# Altium integrated library Altium_WL-SMCW (rev18c).IntLib: 28 symbols
Pins are listed as number, name and electrical type; pins without a type are passive.

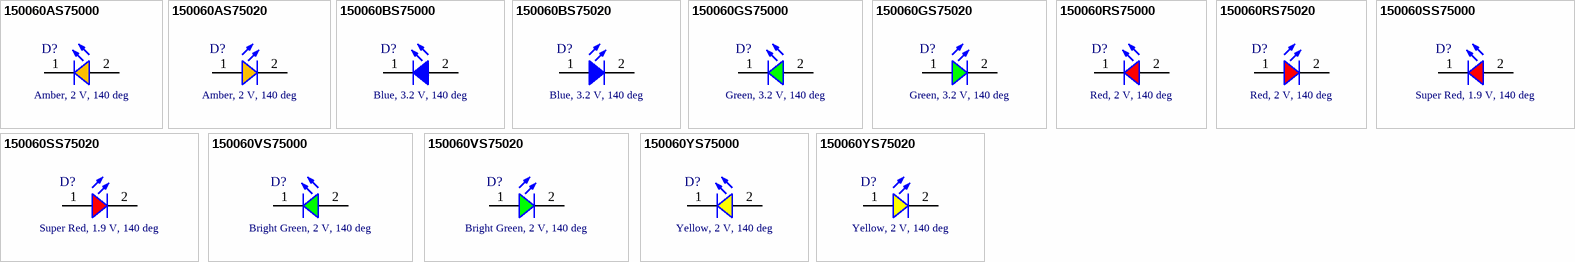
[diagram p0: symbols 150060AS75000 to 150060YS75020]

## 150060AS75000
designator D?, comment Amber, 2 V, 140 deg
SMT Mono-color Chip LED Waterclear WL-SMCW, size 0603, Amber, 2 V, 140 deg, 130 mcd; Part Number: 150060AS75000; Forward Voltage: 2 V; Viewing Angle: 140 deg; Peak Wavelength: 610 nm; Dominant Wavelength: 605 nm; Luminous Intensity: 130 mcd; Chip Technology: AlInGaP; ComponentLink1Description: Manufacturer; ComponentLink1URL: http://www.we-online.de; ComponentLink2Description: Datasheet; ComponentLink2URL: https://katalog.we-online.de/led/datasheet/150060AS75000.pdf; Published Date: November 2018; Publisher: Wurth Elektronik; Size: 0603; Operating Temperature: -40 to 85 degC; Emitting Color: Amber; Mounting Technology: SMT; Packaging: Tape and Reel
footprint WL-SMCW_0603_H=0.7
pins: 1 K, 2 A

## 150060AS75020
designator D?, comment Amber, 2 V, 140 deg
SMT Mono-color Chip LED Waterclear WL-SMCW, size 0603, Amber, 2 V, 140 deg, 140 mcd; Part Number: 150060AS75020; Forward Voltage: 2 V; Viewing Angle: 140 deg; Peak Wavelength: 610 nm; Dominant Wavelength: 605 nm; Luminous Intensity: 140 mcd; Chip Technology: AlInGaP; ComponentLink1Description: Manufacturer; ComponentLink1URL: http://www.we-online.de; ComponentLink2Description: Datasheet; ComponentLink2URL: https://katalog.we-online.de/led/datasheet/150060AS75020.pdf; Published Date: November 2018; Publisher: Wurth Elektronik; Size: 0603; Operating Temperature: -40 to 85 degC; Emitting Color: Amber; Mounting Technology: SMT; Packaging: Tape and Reel
footprint WL-SMCW_0603_H=0.25
pins: 1 A, 2 K

## 150060BS75000
designator D?, comment Blue, 3.2 V, 140 deg
SMT Mono-color Chip LED Waterclear WL-SMCW, size 0603, Blue, 3.2 V, 140 deg, 145 mcd; Part Number: 150060BS75000; Forward Voltage: 3.2 V; Viewing Angle: 140 deg; Peak Wavelength: 465 nm; Dominant Wavelength: 470 nm; Luminous Intensity: 145 mcd; Chip Technology: InGaN; ComponentLink1Description: Manufacturer; ComponentLink1URL: http://www.we-online.de; ComponentLink2Description: Datasheet; ComponentLink2URL: https://katalog.we-online.de/led/datasheet/150060BS75000.pdf; Published Date: November 2018; Publisher: Wurth Elektronik; Size: 0603; Operating Temperature: -40 to 85 degC; Emitting Color: Blue; Mounting Technology: SMT; Packaging: Tape and Reel
footprint WL-SMCW_0603_H=0.7
pins: 1 K, 2 A

## 150060BS75020
designator D?, comment Blue, 3.2 V, 140 deg
SMT Mono-color Chip LED Waterclear WL-SMCW, size 0603, Blue, 3.2 V, 140 deg, 150 mcd; Part Number: 150060BS75020; Forward Voltage: 3.2 V; Viewing Angle: 140 deg; Peak Wavelength: 465 nm; Dominant Wavelength: 470 nm; Luminous Intensity: 150 mcd; Chip Technology: InGaN; ComponentLink1Description: Manufacturer; ComponentLink1URL: http://www.we-online.de; ComponentLink2Description: Datasheet; ComponentLink2URL: https://katalog.we-online.de/led/datasheet/150060BS75020.pdf; Published Date: November 2018; Publisher: Wurth Elektronik; Size: 0603; Operating Temperature: -40 to 85 degC; Emitting Color: Blue; Mounting Technology: SMT; Packaging: Tape and Reel
footprint WL-SMCW_0603_H=0.25
pins: 1 A, 2 K

## 150060GS75000
designator D?, comment Green, 3.2 V, 140 deg
SMT Mono-color Chip LED Waterclear WL-SMCW, size 0603, Green, 3.2 V, 140 deg, 430 mcd; Part Number: 150060GS75000; Forward Voltage: 3.2 V; Viewing Angle: 140 deg; Peak Wavelength: 515 nm; Dominant Wavelength: 525 nm; Luminous Intensity: 430 mcd; Chip Technology: InGaN; ComponentLink1Description: Manufacturer; ComponentLink1URL: http://www.we-online.de; ComponentLink2Description: Datasheet; ComponentLink2URL: https://katalog.we-online.de/led/datasheet/150060GS75000.pdf; Published Date: November 2018; Publisher: Wurth Elektronik; Size: 0603; Operating Temperature: -40 to 85 degC; Emitting Color: Green; Mounting Technology: SMT; Packaging: Tape and Reel
footprint WL-SMCW_0603_H=0.7
pins: 1 K, 2 A

## 150060GS75020
designator D?, comment Green, 3.2 V, 140 deg
SMT Mono-color Chip LED Waterclear WL-SMCW, size 0603, Green, 3.2 V, 140 deg, 700 mcd; Part Number: 150060GS75020; Forward Voltage: 3.2 V; Viewing Angle: 140 deg; Peak Wavelength: 515 nm; Dominant Wavelength: 525 nm; Luminous Intensity: 700 mcd; Chip Technology: InGaN; ComponentLink1Description: Manufacturer; ComponentLink1URL: http://www.we-online.de; ComponentLink2Description: Datasheet; ComponentLink2URL: https://katalog.we-online.de/led/datasheet/150060GS75020.pdf; Published Date: November 2018; Publisher: Wurth Elektronik; Size: 0603; Operating Temperature: -40 to 85 degC; Emitting Color: Green; Mounting Technology: SMT; Packaging: Tape and Reel
footprint WL-SMCW_0603_H=0.25
pins: 1 A, 2 K

## 150060RS75000
designator D?, comment Red, 2 V, 140 deg
SMT Mono-color Chip LED Waterclear WL-SMCW, size 0603, Red, 2 V, 140 deg, 250 mcd; Part Number: 150060RS75000; Forward Voltage: 2 V; Viewing Angle: 140 deg; Peak Wavelength: 630 nm; Dominant Wavelength: 625 nm; Luminous Intensity: 250 mcd; Chip Technology: AlInGaP; ComponentLink1Description: Manufacturer; ComponentLink1URL: http://www.we-online.de; ComponentLink2Description: Datasheet; ComponentLink2URL: https://katalog.we-online.de/led/datasheet/150060RS75000.pdf; Published Date: November 2018; Publisher: Wurth Elektronik; Size: 0603; Operating Temperature: -40 to 85 degC; Emitting Color: Red; Mounting Technology: SMT; Packaging: Tape and Reel
footprint WL-SMCW_0603_H=0.7
pins: 1 K, 2 A

## 150060RS75020
designator D?, comment Red, 2 V, 140 deg
SMT Mono-color Chip LED Waterclear WL-SMCW, size 0603, Red, 2 V, 140 deg, 100 mcd; Part Number: 150060RS75020; Forward Voltage: 2 V; Viewing Angle: 140 deg; Peak Wavelength: 630 nm; Dominant Wavelength: 625 nm; Luminous Intensity: 100 mcd; Chip Technology: AlInGaP; ComponentLink1Description: Manufacturer; ComponentLink1URL: http://www.we-online.de; ComponentLink2Description: Datasheet; ComponentLink2URL: https://katalog.we-online.de/led/datasheet/150060RS75020.pdf; Published Date: November 2018; Publisher: Wurth Elektronik; Size: 0603; Operating Temperature: -40 to 85 degC; Emitting Color: Red; Mounting Technology: SMT; Packaging: Tape and Reel
footprint WL-SMCW_0603_H=0.25
pins: 1 A, 2 K

## 150060SS75000
designator D?, comment Super Red, 1.9 V, 140 deg
SMT Mono-color Chip LED Waterclear WL-SMCW, size 0603, Super Red, 1.9 V, 140 deg, 60 mcd; Part Number: 150060SS75000; Forward Voltage: 1.9 V; Viewing Angle: 140 deg; Peak Wavelength: 645 nm; Dominant Wavelength: 630 nm; Luminous Intensity: 60 mcd; Chip Technology: AlInGaP; ComponentLink1Description: Manufacturer; ComponentLink1URL: http://www.we-online.de; ComponentLink2Description: Datasheet; ComponentLink2URL: https://katalog.we-online.de/led/datasheet/150060SS75000.pdf; Published Date: November 2018; Publisher: Wurth Elektronik; Size: 0603; Operating Temperature: -40 to 85 degC; Emitting Color: Super Red; Mounting Technology: SMT; Packaging: Tape and Reel
footprint WL-SMCW_0603_H=0.7
pins: 1 K, 2 A

## 150060SS75020
designator D?, comment Super Red, 1.9 V, 140 deg
SMT Mono-color Chip LED Waterclear WL-SMCW, size 0603, Super Red, 1.9 V, 140 deg, 70 mcd; Part Number: 150060SS75020; Forward Voltage: 1.9 V; Viewing Angle: 140 deg; Peak Wavelength: 645 nm; Dominant Wavelength: 630 nm; Luminous Intensity: 70 mcd; Chip Technology: AlInGaP; ComponentLink1Description: Manufacturer; ComponentLink1URL: http://www.we-online.de; ComponentLink2Description: Datasheet; ComponentLink2URL: https://katalog.we-online.de/led/datasheet/150060SS75020.pdf; Published Date: November 2018; Publisher: Wurth Elektronik; Size: 0603; Operating Temperature: -40 to 85 degC; Emitting Color: Super Red; Mounting Technology: SMT; Packaging: Tape and Reel
footprint WL-SMCW_0603_H=0.25
pins: 1 A, 2 K

## 150060VS75000
designator D?, comment Bright Green, 2 V, 140 deg
SMT Mono-color Chip LED Waterclear WL-SMCW, size 0603, Bright Green, 2 V, 140 deg, 40 mcd; Part Number: 150060VS75000; Forward Voltage: 2 V; Viewing Angle: 140 deg; Peak Wavelength: 572 nm; Dominant Wavelength: 570 nm; Luminous Intensity: 40 mcd; Chip Technology: AlInGaP; ComponentLink1Description: Manufacturer; ComponentLink1URL: http://www.we-online.de; ComponentLink2Description: Datasheet; ComponentLink2URL: https://katalog.we-online.de/led/datasheet/150060VS75000.pdf; Published Date: November 2018; Publisher: Wurth Elektronik; Size: 0603; Operating Temperature: -40 to 85 degC; Emitting Color: Bright Green; Mounting Technology: SMT; Packaging: Tape and Reel
footprint WL-SMCW_0603_H=0.7
pins: 1 K, 2 A

## 150060VS75020
designator D?, comment Bright Green, 2 V, 140 deg
SMT Mono-color Chip LED Waterclear WL-SMCW, size 0603, Bright Green, 2 V, 140 deg, 50 mcd; Part Number: 150060VS75020; Forward Voltage: 2 V; Viewing Angle: 140 deg; Peak Wavelength: 572 nm; Dominant Wavelength: 570 nm; Luminous Intensity: 50 mcd; Chip Technology: AlInGaP; ComponentLink1Description: Manufacturer; ComponentLink1URL: http://www.we-online.de; ComponentLink2Description: Datasheet; ComponentLink2URL: https://katalog.we-online.de/led/datasheet/150060VS75020.pdf; Published Date: November 2018; Publisher: Wurth Elektronik; Size: 0603; Operating Temperature: -40 to 85 degC; Emitting Color: Bright Green; Mounting Technology: SMT; Packaging: Tape and Reel
footprint WL-SMCW_0603_H=0.25
pins: 1 A, 2 K

## 150060YS75000
designator D?, comment Yellow, 2 V, 140 deg
SMT Mono-color Chip LED Waterclear WL-SMCW, size 0603, Yellow, 2 V, 140 deg, 120 mcd; Part Number: 150060YS75000; Forward Voltage: 2 V; Viewing Angle: 140 deg; Peak Wavelength: 595 nm; Dominant Wavelength: 590 nm; Luminous Intensity: 120 mcd; Chip Technology: AlInGaP; ComponentLink1Description: Manufacturer; ComponentLink1URL: http://www.we-online.de; ComponentLink2Description: Datasheet; ComponentLink2URL: https://katalog.we-online.de/led/datasheet/150060YS75000.pdf; Published Date: November 2018; Publisher: Wurth Elektronik; Size: 0603; Operating Temperature: -40 to 85 degC; Emitting Color: Yellow; Mounting Technology: SMT; Packaging: Tape and Reel
footprint WL-SMCW_0603_H=0.7
pins: 1 K, 2 A

## 150060YS75020
designator D?, comment Yellow, 2 V, 140 deg
SMT Mono-color Chip LED Waterclear WL-SMCW, size 0603, Yellow, 2 V, 140 deg, 130 mcd; Part Number: 150060YS75020; Forward Voltage: 2 V; Viewing Angle: 140 deg; Peak Wavelength: 595 nm; Dominant Wavelength: 590 nm; Luminous Intensity: 130 mcd; Chip Technology: AlInGaP; ComponentLink1Description: Manufacturer; ComponentLink1URL: http://www.we-online.de; ComponentLink2Description: Datasheet; ComponentLink2URL: https://katalog.we-online.de/led/datasheet/150060YS75020.pdf; Published Date: November 2018; Publisher: Wurth Elektronik; Size: 0603; Operating Temperature: -40 to 85 degC; Emitting Color: Yellow; Mounting Technology: SMT; Packaging: Tape and Reel
footprint WL-SMCW_0603_H=0.25
pins: 1 A, 2 K


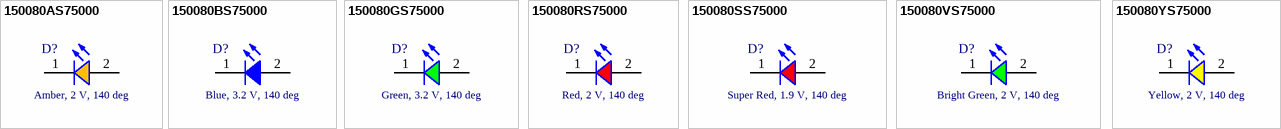
[diagram p1: symbols 150080AS75000 to 150080YS75000]

## 150080AS75000
designator D?, comment Amber, 2 V, 140 deg
SMT Mono-color Chip LED Waterclear WL-SMCW, size 0805, Amber, 2 V, 140 deg, 130 mcd; Part Number: 150080AS75000; Forward Voltage: 2 V; Viewing Angle: 140 deg; Peak Wavelength: 610 nm; Dominant Wavelength: 605 nm; Luminous Intensity: 130 mcd; Chip Technology: AlInGaP; ComponentLink1Description: Manufacturer; ComponentLink1URL: http://www.we-online.de; ComponentLink2Description: Datasheet; ComponentLink2URL: https://katalog.we-online.de/led/datasheet/150080AS75000.pdf; Published Date: November 2018; Publisher: Wurth Elektronik; Size: 0805; Operating Temperature: -40 to 85 degC; Emitting Color: Amber; Mounting Technology: SMT; Packaging: Tape and Reel
footprint WL-SMCW_0805
pins: 1 K, 2 A

## 150080BS75000
designator D?, comment Blue, 3.2 V, 140 deg
SMT Mono-color Chip LED Waterclear WL-SMCW, size 0805, Blue, 3.2 V, 140 deg, 145 mcd; Part Number: 150080BS75000; Forward Voltage: 3.2 V; Viewing Angle: 140 deg; Peak Wavelength: 465 nm; Dominant Wavelength: 470 nm; Luminous Intensity: 145 mcd; Chip Technology: InGaN; ComponentLink1Description: Manufacturer; ComponentLink1URL: http://www.we-online.de; ComponentLink2Description: Datasheet; ComponentLink2URL: https://katalog.we-online.de/led/datasheet/150080BS75000.pdf; Published Date: November 2018; Publisher: Wurth Elektronik; Size: 0805; Operating Temperature: -40 to 85 degC; Emitting Color: Blue; Mounting Technology: SMT; Packaging: Tape and Reel
footprint WL-SMCW_0805
pins: 1 K, 2 A

## 150080GS75000
designator D?, comment Green, 3.2 V, 140 deg
SMT Mono-color Chip LED Waterclear WL-SMCW, size 0805, Green, 3.2 V, 140 deg, 450 mcd; Part Number: 150080GS75000; Forward Voltage: 3.2 V; Viewing Angle: 140 deg; Peak Wavelength: 515 nm; Dominant Wavelength: 525 nm; Luminous Intensity: 450 mcd; Chip Technology: InGaN; ComponentLink1Description: Manufacturer; ComponentLink1URL: http://www.we-online.de; ComponentLink2Description: Datasheet; ComponentLink2URL: https://katalog.we-online.de/led/datasheet/150080GS75000.pdf; Published Date: November 2018; Publisher: Wurth Elektronik; Size: 0805; Operating Temperature: -40 to 85 degC; Emitting Color: Green; Mounting Technology: SMT; Packaging: Tape and Reel
footprint WL-SMCW_0805
pins: 1 K, 2 A

## 150080RS75000
designator D?, comment Red, 2 V, 140 deg
SMT Mono-color Chip LED Waterclear WL-SMCW, size 0805, Red, 2 V, 140 deg, 150 mcd; Part Number: 150080RS75000; Forward Voltage: 2 V; Viewing Angle: 140 deg; Peak Wavelength: 630 nm; Dominant Wavelength: 625 nm; Luminous Intensity: 150 mcd; Chip Technology: AlInGaP; ComponentLink1Description: Manufacturer; ComponentLink1URL: http://www.we-online.de; ComponentLink2Description: Datasheet; ComponentLink2URL: https://katalog.we-online.de/led/datasheet/150080RS75000.pdf; Published Date: November 2018; Publisher: Wurth Elektronik; Size: 0805; Operating Temperature: -40 to 85 degC; Emitting Color: Red; Mounting Technology: SMT; Packaging: Tape and Reel
footprint WL-SMCW_0805
pins: 1 K, 2 A

## 150080SS75000
designator D?, comment Super Red, 1.9 V, 140 deg
SMT Mono-color Chip LED Waterclear WL-SMCW, size 0805, Super Red, 1.9 V, 140 deg, 60 mcd; Part Number: 150080SS75000; Forward Voltage: 1.9 V; Viewing Angle: 140 deg; Peak Wavelength: 645 nm; Dominant Wavelength: 630 nm; Luminous Intensity: 60 mcd; Chip Technology: AlInGaP; ComponentLink1Description: Manufacturer; ComponentLink1URL: http://www.we-online.de; ComponentLink2Description: Datasheet; ComponentLink2URL: https://katalog.we-online.de/led/datasheet/150080SS75000.pdf; Published Date: November 2018; Publisher: Wurth Elektronik; Size: 0805; Operating Temperature: -40 to 85 degC; Emitting Color: Super Red; Mounting Technology: SMT; Packaging: Tape and Reel
footprint WL-SMCW_0805
pins: 1 K, 2 A

## 150080VS75000
designator D?, comment Bright Green, 2 V, 140 deg
SMT Mono-color Chip LED Waterclear WL-SMCW, size 0805, Bright Green, 2 V, 140 deg, 40 mcd; Part Number: 150080VS75000; Forward Voltage: 2 V; Viewing Angle: 140 deg; Peak Wavelength: 572 nm; Dominant Wavelength: 570 nm; Luminous Intensity: 40 mcd; Chip Technology: AlInGaP; ComponentLink1Description: Manufacturer; ComponentLink1URL: http://www.we-online.de; ComponentLink2Description: Datasheet; ComponentLink2URL: https://katalog.we-online.de/led/datasheet/150080VS75000.pdf; Published Date: November 2018; Publisher: Wurth Elektronik; Size: 0805; Operating Temperature: -40 to 85 degC; Emitting Color: Bright Green; Mounting Technology: SMT; Packaging: Tape and Reel
footprint WL-SMCW_0805
pins: 1 K, 2 A

## 150080YS75000
designator D?, comment Yellow, 2 V, 140 deg
SMT Mono-color Chip LED Waterclear WL-SMCW, size 0805, Yellow, 2 V, 140 deg, 120 mcd; Part Number: 150080YS75000; Forward Voltage: 2 V; Viewing Angle: 140 deg; Peak Wavelength: 595 nm; Dominant Wavelength: 590 nm; Luminous Intensity: 120 mcd; Chip Technology: AlInGaP; ComponentLink1Description: Manufacturer; ComponentLink1URL: http://www.we-online.de; ComponentLink2Description: Datasheet; ComponentLink2URL: https://katalog.we-online.de/led/datasheet/150080YS75000.pdf; Published Date: November 2018; Publisher: Wurth Elektronik; Size: 0805; Operating Temperature: -40 to 85 degC; Emitting Color: Yellow; Mounting Technology: SMT; Packaging: Tape and Reel
footprint WL-SMCW_0805
pins: 1 K, 2 A


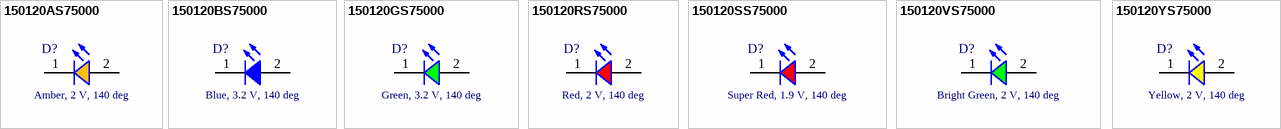
[diagram p2: symbols 150120AS75000 to 150120YS75000]

## 150120AS75000
designator D?, comment Amber, 2 V, 140 deg
SMT Mono-color Chip LED Waterclear WL-SMCW, size 1206, Amber, 2 V, 140 deg, 140 mcd; Part Number: 150120AS75000; Forward Voltage: 2 V; Viewing Angle: 140 deg; Peak Wavelength: 610 nm; Dominant Wavelength: 605 nm; Luminous Intensity: 140 mcd; Chip Technology: AlInGaP; ComponentLink1Description: Manufacturer; ComponentLink1URL: http://www.we-online.de; ComponentLink2Description: Datasheet; ComponentLink2URL: https://katalog.we-online.de/led/datasheet/150120AS75000.pdf; Published Date: November 2018; Publisher: Wurth Elektronik; Size: 1206; Operating Temperature: -40 to 85 degC; Emitting Color: Amber; Mounting Technology: SMT; Packaging: Tape and Reel
footprint WL-SMCW_1206
pins: 1 K, 2 A

## 150120BS75000
designator D?, comment Blue, 3.2 V, 140 deg
SMT Mono-color Chip LED Waterclear WL-SMCW, size 1206, Blue, 3.2 V, 140 deg, 145 mcd; Part Number: 150120BS75000; Forward Voltage: 3.2 V; Viewing Angle: 140 deg; Peak Wavelength: 465 nm; Dominant Wavelength: 470 nm; Luminous Intensity: 145 mcd; Chip Technology: InGaN; ComponentLink1Description: Manufacturer; ComponentLink1URL: http://www.we-online.de; ComponentLink2Description: Datasheet; ComponentLink2URL: https://katalog.we-online.de/led/datasheet/150120BS75000.pdf; Published Date: November 2018; Publisher: Wurth Elektronik; Size: 1206; Operating Temperature: -40 to 85 degC; Emitting Color: Blue; Mounting Technology: SMT; Packaging: Tape and Reel
footprint WL-SMCW_1206
pins: 1 K, 2 A

## 150120GS75000
designator D?, comment Green, 3.2 V, 140 deg
SMT Mono-color Chip LED Waterclear WL-SMCW, size 1206, Green, 3.2 V, 140 deg, 450 mcd; Part Number: 150120GS75000; Forward Voltage: 3.2 V; Viewing Angle: 140 deg; Peak Wavelength: 515 nm; Dominant Wavelength: 525 nm; Luminous Intensity: 450 mcd; Chip Technology: InGaN; ComponentLink1Description: Manufacturer; ComponentLink1URL: http://www.we-online.de; ComponentLink2Description: Datasheet; ComponentLink2URL: https://katalog.we-online.de/led/datasheet/150120GS75000.pdf; Published Date: November 2018; Publisher: Wurth Elektronik; Size: 1206; Operating Temperature: -40 to 85 degC; Emitting Color: Green; Mounting Technology: SMT; Packaging: Tape and Reel
footprint WL-SMCW_1206
pins: 1 K, 2 A

## 150120RS75000
designator D?, comment Red, 2 V, 140 deg
SMT Mono-color Chip LED Waterclear WL-SMCW, size 1206, Red, 2 V, 140 deg, 150 mcd; Part Number: 150120RS75000; Forward Voltage: 2 V; Viewing Angle: 140 deg; Peak Wavelength: 630 nm; Dominant Wavelength: 625 nm; Luminous Intensity: 150 mcd; Chip Technology: AlInGaP; ComponentLink1Description: Manufacturer; ComponentLink1URL: http://www.we-online.de; ComponentLink2Description: Datasheet; ComponentLink2URL: https://katalog.we-online.de/led/datasheet/150120RS75000.pdf; Published Date: November 2018; Publisher: Wurth Elektronik; Size: 1206; Operating Temperature: -40 to 85 degC; Emitting Color: Red; Mounting Technology: SMT; Packaging: Tape and Reel
footprint WL-SMCW_1206
pins: 1 K, 2 A

## 150120SS75000
designator D?, comment Super Red, 1.9 V, 140 deg
SMT Mono-color Chip LED Waterclear WL-SMCW, size 1206, Super Red, 1.9 V, 140 deg, 60 mcd; Part Number: 150120SS75000; Forward Voltage: 1.9 V; Viewing Angle: 140 deg; Peak Wavelength: 645 nm; Dominant Wavelength: 630 nm; Luminous Intensity: 60 mcd; Chip Technology: AlInGaP; ComponentLink1Description: Manufacturer; ComponentLink1URL: http://www.we-online.de; ComponentLink2Description: Datasheet; ComponentLink2URL: https://katalog.we-online.de/led/datasheet/150120SS75000.pdf; Published Date: November 2018; Publisher: Wurth Elektronik; Size: 1206; Operating Temperature: -40 to 85 degC; Emitting Color: Super Red; Mounting Technology: SMT; Packaging: Tape and Reel
footprint WL-SMCW_1206
pins: 1 K, 2 A

## 150120VS75000
designator D?, comment Bright Green, 2 V, 140 deg
SMT Mono-color Chip LED Waterclear WL-SMCW, size 1206, Bright Green, 2 V, 140 deg, 40 mcd; Part Number: 150120VS75000; Forward Voltage: 2 V; Viewing Angle: 140 deg; Peak Wavelength: 572 nm; Dominant Wavelength: 570 nm; Luminous Intensity: 40 mcd; Chip Technology: AlInGaP; ComponentLink1Description: Manufacturer; ComponentLink1URL: http://www.we-online.de; ComponentLink2Description: Datasheet; ComponentLink2URL: https://katalog.we-online.de/led/datasheet/150120VS75000.pdf; Published Date: November 2018; Publisher: Wurth Elektronik; Size: 1206; Operating Temperature: -40 to 85 degC; Emitting Color: Bright Green; Mounting Technology: SMT; Packaging: Tape and Reel
footprint WL-SMCW_1206
pins: 1 K, 2 A

## 150120YS75000
designator D?, comment Yellow, 2 V, 140 deg
SMT Mono-color Chip LED Waterclear WL-SMCW, size 1206, Yellow, 2 V, 140 deg, 120 mcd; Part Number: 150120YS75000; Forward Voltage: 2 V; Viewing Angle: 140 deg; Peak Wavelength: 595 nm; Dominant Wavelength: 590 nm; Luminous Intensity: 120 mcd; Chip Technology: AlInGaP; ComponentLink1Description: Manufacturer; ComponentLink1URL: http://www.we-online.de; ComponentLink2Description: Datasheet; ComponentLink2URL: https://katalog.we-online.de/led/datasheet/150120YS75000.pdf; Published Date: November 2018; Publisher: Wurth Elektronik; Size: 1206; Operating Temperature: -40 to 85 degC; Emitting Color: Yellow; Mounting Technology: SMT; Packaging: Tape and Reel
footprint WL-SMCW_1206
pins: 1 K, 2 A